# Altium footprint library mh.PcbLib: 5 footprints
Each footprint in its own frame and in the unit in brackets; x right, y up, seen from the top. Pads: shape width x height; smd on the part's side, far side on the other; paste and mask are expansions set on the pad; w line width, h text height; cw(c..) or ccw(c..) is an arc to the next point about the centre after c.
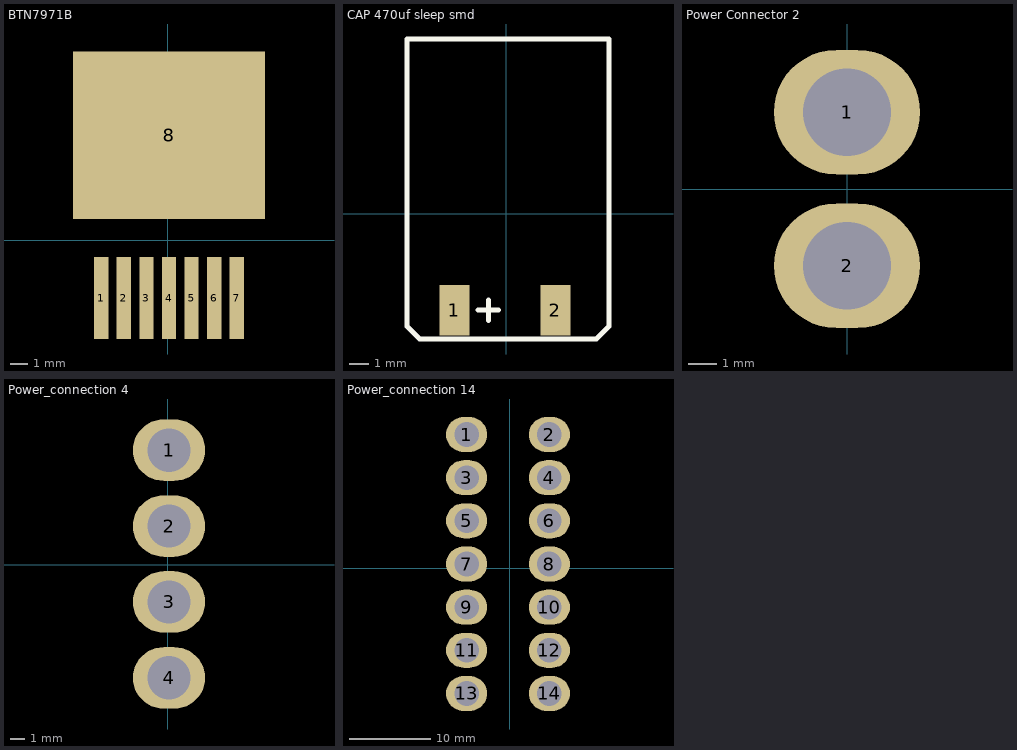
[diagram p0: the footprints below, top view; thin cyan lines are the x and y axes]

## BTN7971B [mm]
pads (8):
  rect 0.8x4.6 smd: 1(-3.734,-3.251) 2(-2.464,-3.251) 3(-1.194,-3.251) 4(0.076,-3.251) 5(1.346,-3.251) 6(2.616,-3.251) 7(3.886,-3.251)
  rect 10.8x9.4 smd: 8(0.076,5.899)

## CAP 470uf sleep smd [mil]
pads (2):
  rect 60x100 smd: 1(-103,-191) 2(97,-191)
Top Overlay:
  lines w10: -56,-191 -16,-191 ; -36,-211 -36,-171 ; -197,-223 -172,-248 178,-248 203,-223 203,346 -197,346 -197,-223

## Power Connector 2 [mil]
pads (2):
  oval 200x170 hole 120: 1(0,105) 2(0,-105)

## Power_connection 4 [mil]
pads (4):
  oval 200x170 hole 120: 1(4,317) 2(4,107) 3(4,-103) 4(4,-313)

## Power_connection 14 [mil]
pads (14):
  oval 200x170 hole 120: 1(-209,651) 2(194,651) 3(-209,441) 4(194,441) 5(-209,231) 6(194,231) 7(-209,21) 8(194,21) 9(-209,-189) 10(194,-189) 11(-209,-399) 12(194,-399) 13(-209,-609) 14(194,-609)